# EAGLE library part EP2C70F896 (library altera-cyclone-II)
EP2C70F896 Auto generated by make-symbol-device-package-bsdl.ulp Rev. 19 Tip: Use split-device-symbol.ulp to generate a Device with multiple small symbols! Read HELP. Source: EP2C70F896.BSD
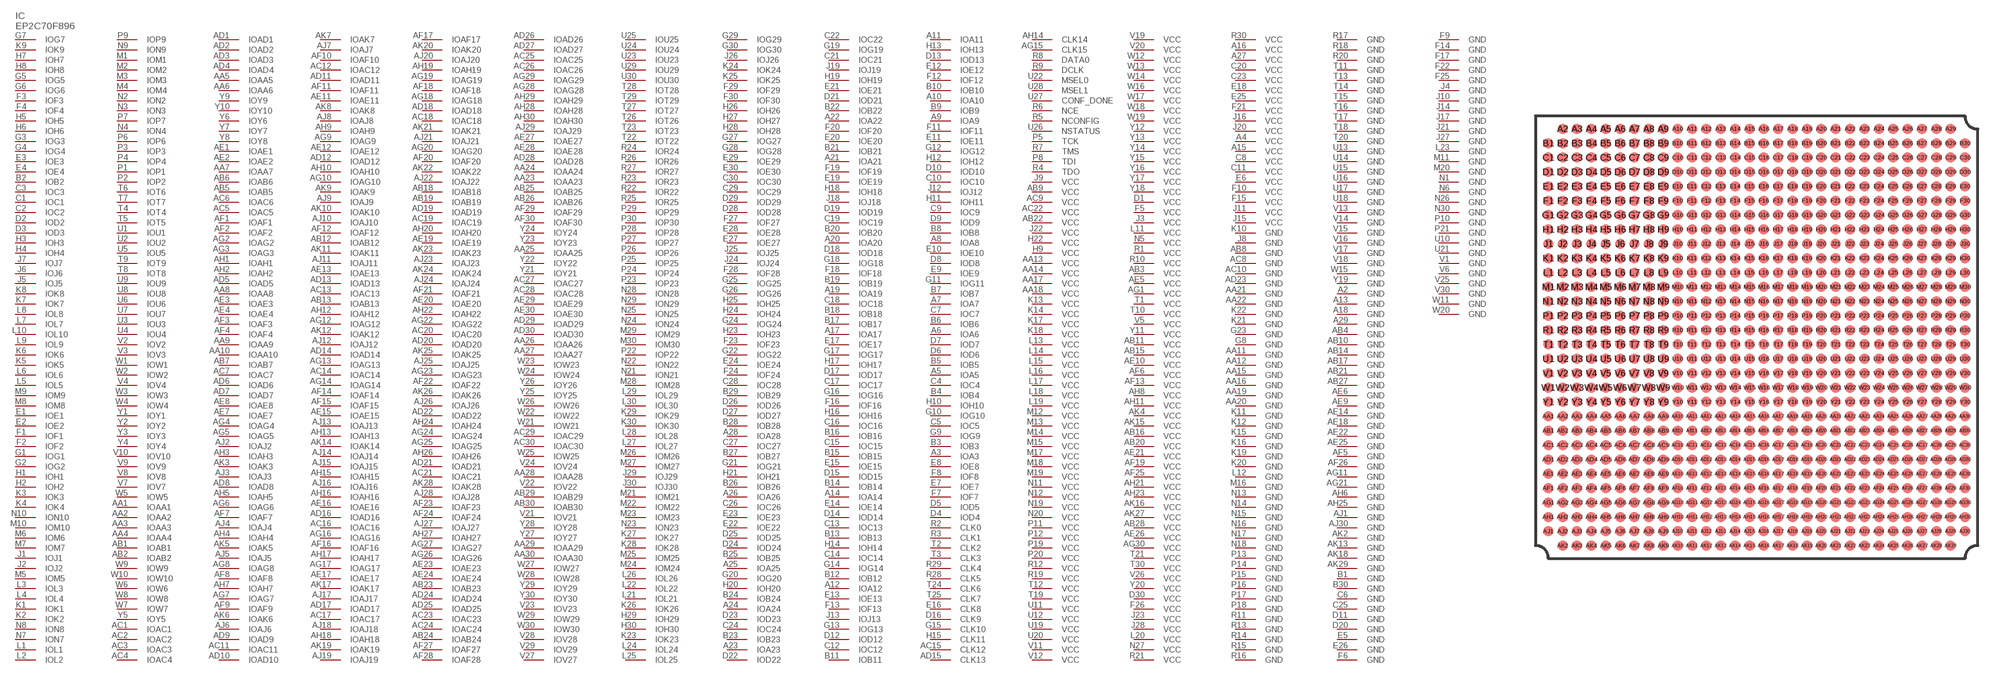
[diagram p17: symbol with the pads of FBGA896; footprint FBGA896]

Designator prefix IC

## EP2C70F896  [FBGA896]
A2  GND  pwr
A3  IOA3
A4  VCC  pwr
A5  IOA5
A6  IOA6
A7  IOA7
A8  IOA8
A9  IOA9
A10  IOA10
A11  IOA11
A12  IOA12
A13  GND  pwr
A14  IOA14
A15  VCC  pwr
A16  VCC  pwr
A17  IOA17
A18  GND  pwr
A19  IOA19
A20  IOA20
A21  IOA21
A22  IOA22
A23  IOA23
A24  IOA24
A25  IOA25
A26  IOA26
A27  VCC  pwr
A28  IOA28
A29  GND  pwr
AA1  IOAA1
AA2  IOAA2
AA3  IOAA3
AA4  IOAA4
AA5  IOAA5
AA6  IOAA6
AA7  IOAA7
AA8  IOAA8
AA9  IOAA9
AA10  IOAA10
AA11  GND  pwr
AA12  GND  pwr
AA13  VCC  pwr
AA14  VCC  pwr
AA15  GND  pwr
AA16  GND  pwr
AA17  VCC  pwr
AA18  VCC  pwr
AA19  GND  pwr
AA20  GND  pwr
AA21  GND  pwr
AA22  GND  pwr
AA23  IOAA23
AA24  IOAA24
AA25  IOAA25
AA26  IOAA26
AA27  IOAA27
AA28  IOAA28
AA29  IOAA29
AA30  IOAA30
AB1  IOAB1
AB2  IOAB2
AB3  VCC  pwr
AB4  GND  pwr
AB5  IOAB5
AB6  IOAB6
AB7  IOAB7
AB8  GND  pwr
AB9  VCC  pwr
AB10  GND  pwr
AB11  VCC  pwr
AB12  IOAB12
AB13  IOAB13
AB14  GND  pwr
AB15  VCC  pwr
AB16  VCC  pwr
AB17  GND  pwr
AB18  IOAB18
AB19  IOAB19
AB20  VCC  pwr
AB21  GND  pwr
AB22  VCC  pwr
AB23  IOAB23
AB24  IOAB24
AB25  IOAB25
AB26  IOAB26
AB27  GND  pwr
AB28  VCC  pwr
AB29  IOAB29
AB30  IOAB30
AC1  IOAC1
AC2  IOAC2
AC3  IOAC3
AC4  IOAC4
AC5  IOAC5
AC6  IOAC6
AC7  IOAC7
AC8  GND  pwr
AC9  VCC  pwr
AC10  GND  pwr
AC11  IOAC11
AC12  IOAC12
AC13  IOAC13
AC14  IOAC14
AC15  CLK12
AC16  IOAC16
AC17  IOAC17
AC18  IOAC18
AC19  IOAC19
AC20  IOAC20
AC21  IOAC21
AC22  VCC  pwr
AC23  IOAC23
AC24  IOAC24
AC25  IOAC25
AC26  IOAC26
AC27  IOAC27
AC28  IOAC28
AC29  IOAC29
AC30  IOAC30
AD1  IOAD1
AD2  IOAD2
AD3  IOAD3
AD4  IOAD4
AD5  IOAD5
AD6  IOAD6
AD7  IOAD7
AD8  IOAD8
AD9  IOAD9
AD10  IOAD10
AD11  IOAD11
AD12  IOAD12
AD13  IOAD13
AD14  IOAD14
AD15  CLK13
AD16  IOAD16
AD17  IOAD17
AD18  IOAD18
AD19  IOAD19
AD20  IOAD20
AD21  IOAD21
AD22  IOAD22
AD23  GND  pwr
AD24  IOAD24
AD25  IOAD25
AD26  IOAD26
AD27  IOAD27
AD28  IOAD28
AD29  IOAD29
AD30  IOAD30
AE1  IOAE1
AE2  IOAE2
AE3  IOAE3
AE4  IOAE4
AE5  VCC  pwr
AE6  GND  pwr
AE7  IOAE7
AE8  IOAE8
AE9  GND  pwr
AE10  VCC  pwr
AE11  IOAE11
AE12  IOAE12
AE13  IOAE13
AE14  GND  pwr
AE15  IOAE15
AE16  IOAE16
AE17  IOAE17
AE18  GND  pwr
AE19  IOAE19
AE20  IOAE20
AE21  VCC  pwr
AE22  GND  pwr
AE23  IOAE23
AE24  IOAE24
AE25  GND  pwr
AE26  VCC  pwr
AE27  IOAE27
AE28  IOAE28
AE29  IOAE29
AE30  IOAE30
AF1  IOAF1
AF2  IOAF2
AF3  IOAF3
AF4  IOAF4
AF5  GND  pwr
AF6  VCC  pwr
AF7  IOAF7
AF8  IOAF8
AF9  IOAF9
AF10  IOAF10
AF11  IOAF11
AF12  IOAF12
AF13  VCC  pwr
AF14  IOAF14
AF15  IOAF15
AF16  IOAF16
AF17  IOAF17
AF18  IOAF18
AF19  VCC  pwr
AF20  IOAF20
AF21  IOAF21
AF22  IOAF22
AF23  IOAF23
AF24  IOAF24
AF25  VCC  pwr
AF26  GND  pwr
AF27  IOAF27
AF28  IOAF28
AF29  IOAF29
AF30  IOAF30
AG1  VCC  pwr
AG2  IOAG2
AG3  IOAG3
AG4  IOAG4
AG5  IOAG5
AG6  IOAG6
AG7  IOAG7
AG8  IOAG8
AG9  IOAG9
AG10  IOAG10
AG11  GND  pwr
AG12  IOAG12
AG13  IOAG13
AG14  IOAG14
AG15  CLK15
AG16  IOAG16
AG17  IOAG17
AG18  IOAG18
AG19  IOAG19
AG20  IOAG20
AG21  GND  pwr
AG22  IOAG22
AG23  IOAG23
AG24  IOAG24
AG25  IOAG25
AG26  IOAG26
AG27  IOAG27
AG28  IOAG28
AG29  IOAG29
AG30  VCC  pwr
AH1  IOAH1
AH2  IOAH2
AH3  IOAH3
AH4  IOAH4
AH5  IOAH5
AH6  GND  pwr
AH7  IOAH7
AH8  VCC  pwr
AH9  IOAH9
AH10  IOAH10
AH11  VCC  pwr
AH12  IOAH12
AH13  IOAH13
AH14  CLK14
AH15  IOAH15
AH16  IOAH16
AH17  IOAH17
AH18  IOAH18
AH19  IOAH19
AH20  IOAH20
AH21  VCC  pwr
AH22  IOAH22
AH23  VCC  pwr
AH24  IOAH24
AH25  GND  pwr
AH26  IOAH26
AH27  IOAH27
AH28  IOAH28
AH29  IOAH29
AH30  IOAH30
AJ1  GND  pwr
AJ2  IOAJ2
AJ3  IOAJ3
AJ4  IOAJ4
AJ5  IOAJ5
AJ6  IOAJ6
AJ7  IOAJ7
AJ8  IOAJ8
AJ9  IOAJ9
AJ10  IOAJ10
AJ11  IOAJ11
AJ12  IOAJ12
AJ13  IOAJ13
AJ14  IOAJ14
AJ15  IOAJ15
AJ16  IOAJ16
AJ17  IOAJ17
AJ18  IOAJ18
AJ19  IOAJ19
AJ20  IOAJ20
AJ21  IOAJ21
AJ22  IOAJ22
AJ23  IOAJ23
AJ24  IOAJ24
AJ25  IOAJ25
AJ26  IOAJ26
AJ27  IOAJ27
AJ28  IOAJ28
AJ29  IOAJ29
AJ30  GND  pwr
AK2  GND  pwr
AK3  IOAK3
AK4  VCC  pwr
AK5  IOAK5
AK6  IOAK6
AK7  IOAK7
AK8  IOAK8
AK9  IOAK9
AK10  IOAK10
AK11  IOAK11
AK12  IOAK12
AK13  GND  pwr
AK14  IOAK14
AK15  VCC  pwr
AK16  VCC  pwr
AK17  IOAK17
AK18  GND  pwr
AK19  IOAK19
AK20  IOAK20
AK21  IOAK21
AK22  IOAK22
AK23  IOAK23
AK24  IOAK24
AK25  IOAK25
AK26  IOAK26
AK27  VCC  pwr
AK28  IOAK28
AK29  GND  pwr
B1  GND  pwr
B2  IOB2
B3  IOB3
B4  IOB4
B5  IOB5
B6  IOB6
B7  IOB7
B8  IOB8
B9  IOB9
B10  IOB10
B11  IOB11
B12  IOB12
B13  IOB13
B14  IOB14
B15  IOB15
B16  IOB16
B17  IOB17
B18  IOB18
B19  IOB19
B20  IOB20
B21  IOB21
B22  IOB22
B23  IOB23
B24  IOB24
B25  IOB25
B26  IOB26
B27  IOB27
B28  IOB28
B29  IOB29
B30  GND  pwr
C1  IOC1
C2  IOC2
C3  IOC3
C4  IOC4
C5  IOC5
C6  GND  pwr
C7  IOC7
C8  VCC  pwr
C9  IOC9
C10  IOC10
C11  VCC  pwr
C12  IOC12
C13  IOC13
C14  IOC14
C15  IOC15
C16  IOC16
C17  IOC17
C18  IOC18
C19  IOC19
C20  VCC  pwr
C21  IOC21
C22  IOC22
C23  VCC  pwr
C24  IOC24
C25  GND  pwr
C26  IOC26
C27  IOC27
C28  IOC28
C29  IOC29
C30  IOC30
D1  VCC  pwr
D2  IOD2
D3  IOD3
D4  IOD4
D5  IOD5
D6  IOD6
D7  IOD7
D8  IOD8
D9  IOD9
D10  IOD10
D11  GND  pwr
D12  IOD12
D13  IOD13
D14  IOD14
D15  IOD15
D16  CLK9
D17  IOD17
D18  IOD18
D19  IOD19
D20  GND  pwr
D21  IOD21
D22  IOD22
D23  IOD23
D24  IOD24
D25  IOD25
D26  IOD26
D27  IOD27
D28  IOD28
D29  IOD29
D30  VCC  pwr
E1  IOE1
E2  IOE2
E3  IOE3
E4  IOE4
E5  GND  pwr
E6  VCC  pwr
E7  IOE7
E8  IOE8
E9  IOE9
E10  IOE10
E11  IOE11
E12  IOE12
E13  IOE13
E14  IOE14
E15  IOE15
E16  CLK8
E17  IOE17
E18  VCC  pwr
E19  IOE19
E20  IOE20
E21  IOE21
E22  IOE22
E23  IOE23
E24  IOE24
E25  VCC  pwr
E26  GND  pwr
E27  IOE27
E28  IOE28
E29  IOE29
E30  IOE30
F1  IOF1
F2  IOF2
F3  IOF3
F4  IOF4
F5  VCC  pwr
F6  GND  pwr
F7  IOF7
F8  IOF8
F9  GND  pwr
F10  VCC  pwr
F11  IOF11
F12  IOF12
F13  IOF13
F14  GND  pwr
F15  VCC  pwr
F16  IOF16
F17  GND  pwr
F18  IOF18
F19  IOF19
F20  IOF20
F21  VCC  pwr
F22  GND  pwr
F23  IOF23
F24  IOF24
F25  GND  pwr
F26  VCC  pwr
F27  IOF27
F28  IOF28
F29  IOF29
F30  IOF30
G1  IOG1
G2  IOG2
G3  IOG3
G4  IOG4
G5  IOG5
G6  IOG6
G7  IOG7  out
G8  GND  pwr
G9  IOG9
G10  IOG10
G11  IOG11
G12  IOG12
G13  IOG13
G14  IOG14
G15  CLK10
G16  IOG16
G17  IOG17
G18  IOG18
G19  IOG19
G20  IOG20
G21  IOG21
G22  IOG22
G23  GND  pwr
G24  IOG24
G25  IOG25
G26  IOG26
G27  IOG27
G28  IOG28
G29  IOG29
G30  IOG30
H1  IOH1
H2  IOH2
H3  IOH3
H4  IOH4
H5  IOH5
H6  IOH6
H7  IOH7
H8  IOH8
H9  VCC  pwr
H10  IOH10
H11  IOH11
H12  IOH12
H13  IOH13
H14  IOH14
H15  CLK11
H16  IOH16
H17  IOH17
H18  IOH18
H19  IOH19
H20  IOH20
H21  IOH21
H22  VCC  pwr
H23  IOH23
H24  IOH24
H25  IOH25
H26  IOH26
H27  IOH27
H28  IOH28
H29  IOH29
H30  IOH30
J1  IOJ1
J2  IOJ2
J3  VCC  pwr
J4  GND  pwr
J5  IOJ5
J6  IOJ6
J7  IOJ7
J8  GND  pwr
J9  VCC  pwr
J10  GND  pwr
J11  VCC  pwr
J12  IOJ12
J13  IOJ13
J14  GND  pwr
J15  VCC  pwr
J16  VCC  pwr
J17  GND  pwr
J18  IOJ18
J19  IOJ19
J20  VCC  pwr
J21  GND  pwr
J22  VCC  pwr
J23  VCC  pwr
J24  IOJ24
J25  IOJ25
J26  IOJ26
J27  GND  pwr
J28  VCC  pwr
J29  IOJ29
J30  IOJ30
K1  IOK1
K2  IOK2
K3  IOK3
K4  IOK4
K5  IOK5
K6  IOK6
K7  IOK7
K8  IOK8
K9  IOK9  out
K10  GND  pwr
K11  GND  pwr
K12  GND  pwr
K13  VCC  pwr
K14  VCC  pwr
K15  GND  pwr
K16  GND  pwr
K17  VCC  pwr
K18  VCC  pwr
K19  GND  pwr
K20  GND  pwr
K21  GND  pwr
K22  GND  pwr
K23  IOK23
K24  IOK24
K25  IOK25
K26  IOK26
K27  IOK27
K28  IOK28
K29  IOK29
K30  IOK30
L1  IOL1
L2  IOL2
L3  IOL3
L4  IOL4
L5  IOL5
L6  IOL6
L7  IOL7
L8  IOL8
L9  IOL9
L10  IOL10
L11  VCC  pwr
L12  GND  pwr
L13  VCC  pwr
L14  VCC  pwr
L15  VCC  pwr
L16  VCC  pwr
L17  VCC  pwr
L18  VCC  pwr
L19  VCC  pwr
L20  VCC  pwr
L21  IOL21
L22  IOL22
L23  GND  pwr
L24  IOL24
L25  IOL25
L26  IOL26
L27  IOL27
L28  IOL28
L29  IOL29
L30  IOL30
M1  IOM1
M2  IOM2
M3  IOM3
M4  IOM4
M5  IOM5
M6  IOM6
M7  IOM7
M8  IOM8
M9  IOM9
M10  IOM10
M11  GND  pwr
M12  VCC  pwr
M13  VCC  pwr
M14  VCC  pwr
M15  VCC  pwr
M16  GND  pwr
M17  VCC  pwr
M18  VCC  pwr
M19  VCC  pwr
M20  GND  pwr
M21  IOM21
M22  IOM22
M23  IOM23
M24  IOM24
M25  IOM25
M26  IOM26
M27  IOM27
M28  IOM28
M29  IOM29
M30  IOM30
N1  GND  pwr
N2  ION2
N3  ION3
N4  ION4
N5  VCC  pwr
N6  GND  pwr
N7  ION7
N8  ION8
N9  ION9
N10  ION10
N11  VCC  pwr
N12  VCC  pwr
N13  GND  pwr
N14  GND  pwr
N15  GND  pwr
N16  GND  pwr
N17  GND  pwr
N18  GND  pwr
N19  VCC  pwr
N20  VCC  pwr
N21  ION21
N22  ION22
N23  ION23
N24  ION24
N25  ION25
N26  GND  pwr
N27  VCC  pwr
N28  ION28
N29  ION29
N30  GND  pwr
P1  IOP1
P2  IOP2
P3  IOP3
P4  IOP4
P5  TCK  in
P6  IOP6
P7  IOP7
P8  TDI  in
P9  IOP9
P10  GND  pwr
P11  VCC  pwr
P12  VCC  pwr
P13  GND  pwr
P14  GND  pwr
P15  GND  pwr
P16  GND  pwr
P17  GND  pwr
P18  GND  pwr
P19  VCC  pwr
P20  VCC  pwr
P21  GND  pwr
P22  IOP22
P23  IOP23
P24  IOP24
P25  IOP25
P26  IOP26
P27  IOP27
P28  IOP28
P29  IOP29
P30  IOP30
R1  VCC  pwr
R2  CLK0
R3  CLK1
R4  TDO  out
R5  NCONFIG  in
R6  NCE  in
R7  TMS  in
R8  DATA0
R9  DCLK
R10  VCC  pwr
R11  GND  pwr
R12  VCC  pwr
R13  GND  pwr
R14  GND  pwr
R15  GND  pwr
R16  GND  pwr
R17  GND  pwr
R18  GND  pwr
R19  VCC  pwr
R20  GND  pwr
R21  VCC  pwr
R22  IOR22
R23  IOR23
R24  IOR24
R25  IOR25
R26  IOR26
R27  IOR27
R28  CLK5
R29  CLK4
R30  VCC  pwr
T1  VCC  pwr
T2  CLK2
T3  CLK3
T4  IOT4
T5  IOT5
T6  IOT6
T7  IOT7
T8  IOT8
T9  IOT9
T10  VCC  pwr
T11  GND  pwr
T12  VCC  pwr
T13  GND  pwr
T14  GND  pwr
T15  GND  pwr
T16  GND  pwr
T17  GND  pwr
T18  GND  pwr
T19  VCC  pwr
T20  GND  pwr
T21  VCC  pwr
T22  IOT22
T23  IOT23
T24  CLK6
T25  CLK7
T26  IOT26
T27  IOT27
T28  IOT28
T29  IOT29
T30  VCC  pwr
U1  IOU1
U2  IOU2
U3  IOU3
U4  IOU4
U5  IOU5
U6  IOU6
U7  IOU7
U8  IOU8
U9  IOU9
U10  GND  pwr
U11  VCC  pwr
U12  VCC  pwr
U13  GND  pwr
U14  GND  pwr
U15  GND  pwr
U16  GND  pwr
U17  GND  pwr
U18  GND  pwr
U19  VCC  pwr
U20  VCC  pwr
U21  GND  pwr
U22  MSEL0  in
U23  IOU23
U24  IOU24
U25  IOU25
U26  NSTATUS  in
U27  CONF_DONE  in
U28  MSEL1  in
U29  IOU29
U30  IOU30
V1  GND  pwr
V2  IOV2
V3  IOV3
V4  IOV4
V5  VCC  pwr
V6  GND  pwr
V7  IOV7
V8  IOV8
V9  IOV9
V10  IOV10
V11  VCC  pwr
V12  VCC  pwr
V13  GND  pwr
V14  GND  pwr
V15  GND  pwr
V16  GND  pwr
V17  GND  pwr
V18  GND  pwr
V19  VCC  pwr
V20  VCC  pwr
V21  IOV21
V22  IOV22
V23  IOV23
V24  IOV24
V25  GND  pwr
V26  VCC  pwr
V27  IOV27
V28  IOV28
V29  IOV29
V30  GND  pwr
W1  IOW1
W2  IOW2
W3  IOW3
W4  IOW4
W5  IOW5
W6  IOW6
W7  IOW7
W8  IOW8
W9  IOW9
W10  IOW10
W11  GND  pwr
W12  VCC  pwr
W13  VCC  pwr
W14  VCC  pwr
W15  GND  pwr
W16  VCC  pwr
W17  VCC  pwr
W18  VCC  pwr
W19  VCC  pwr
W20  GND  pwr
W21  IOW21
W22  IOW22
W23  IOW23
W24  IOW24
W25  IOW25
W26  IOW26
W27  IOW27
W28  IOW28
W29  IOW29
W30  IOW30
Y1  IOY1
Y2  IOY2
Y3  IOY3
Y4  IOY4
Y5  IOY5
Y6  IOY6
Y7  IOY7
Y8  IOY8
Y9  IOY9
Y10  IOY10
Y11  VCC  pwr
Y12  VCC  pwr
Y13  VCC  pwr
Y14  VCC  pwr
Y15  VCC  pwr
Y16  VCC  pwr
Y17  VCC  pwr
Y18  VCC  pwr
Y19  GND  pwr
Y20  VCC  pwr
Y21  IOY21
Y22  IOY22
Y23  IOY23
Y24  IOY24
Y25  IOY25
Y26  IOY26
Y27  IOY27
Y28  IOY28
Y29  IOY29
Y30  IOY30

## Footprint FBGA896 (pad centres in mm)
EP2C70F896 Auto generated by make-symbol-device-package-bsdl.ulp Rev. 19 Source: EP2C70F896.BSD www.altera.com .. cyc2_cii51015.pdf
smd 0.7 x 0.7: A2 -13.5,14.5; A3 -12.5,14.5; A4 -11.5,14.5; A5 -10.5,14.5; A6 -9.5,14.5; A7 -8.5,14.5; A8 -7.5,14.5; A9 -6.5,14.5; A10 -5.5,14.5; A11 -4.5,14.5; A12 -3.5,14.5; A13 -2.5,14.5; A14 -1.5,14.5; A15 -0.5,14.5; A16 0.5,14.5; A17 1.5,14.5; A18 2.5,14.5; A19 3.5,14.5; A20 4.5,14.5; A21 5.5,14.5; A22 6.5,14.5; A23 7.5,14.5; A24 8.5,14.5; A25 9.5,14.5; A26 10.5,14.5; A27 11.5,14.5; A28 12.5,14.5; A29 13.5,14.5; AA1 -14.5,-5.5; AA2 -13.5,-5.5; AA3 -12.5,-5.5; AA4 -11.5,-5.5; AA5 -10.5,-5.5; AA6 -9.5,-5.5; AA7 -8.5,-5.5; AA8 -7.5,-5.5; AA9 -6.5,-5.5; AA10 -5.5,-5.5; AA11 -4.5,-5.5; AA12 -3.5,-5.5; AA13 -2.5,-5.5; AA14 -1.5,-5.5; AA15 -0.5,-5.5; AA16 0.5,-5.5; AA17 1.5,-5.5; AA18 2.5,-5.5; AA19 3.5,-5.5; AA20 4.5,-5.5; AA21 5.5,-5.5; AA22 6.5,-5.5; AA23 7.5,-5.5; AA24 8.5,-5.5; AA25 9.5,-5.5; AA26 10.5,-5.5; AA27 11.5,-5.5; AA28 12.5,-5.5; AA29 13.5,-5.5; AA30 14.5,-5.5; AB1 -14.5,-6.5; AB2 -13.5,-6.5; AB3 -12.5,-6.5; AB4 -11.5,-6.5; AB5 -10.5,-6.5; AB6 -9.5,-6.5; AB7 -8.5,-6.5; AB8 -7.5,-6.5; AB9 -6.5,-6.5; AB10 -5.5,-6.5; AB11 -4.5,-6.5; AB12 -3.5,-6.5; AB13 -2.5,-6.5; AB14 -1.5,-6.5; AB15 -0.5,-6.5; AB16 0.5,-6.5; AB17 1.5,-6.5; AB18 2.5,-6.5; AB19 3.5,-6.5; AB20 4.5,-6.5; AB21 5.5,-6.5; AB22 6.5,-6.5; AB23 7.5,-6.5; AB24 8.5,-6.5; AB25 9.5,-6.5; AB26 10.5,-6.5; AB27 11.5,-6.5; AB28 12.5,-6.5; AB29 13.5,-6.5; AB30 14.5,-6.5; AC1 -14.5,-7.5; AC2 -13.5,-7.5; AC3 -12.5,-7.5; AC4 -11.5,-7.5; AC5 -10.5,-7.5; AC6 -9.5,-7.5; AC7 -8.5,-7.5; AC8 -7.5,-7.5; AC9 -6.5,-7.5; AC10 -5.5,-7.5; AC11 -4.5,-7.5; AC12 -3.5,-7.5; AC13 -2.5,-7.5; AC14 -1.5,-7.5; AC15 -0.5,-7.5; AC16 0.5,-7.5; AC17 1.5,-7.5; AC18 2.5,-7.5; AC19 3.5,-7.5; AC20 4.5,-7.5; AC21 5.5,-7.5; AC22 6.5,-7.5; AC23 7.5,-7.5; AC24 8.5,-7.5; AC25 9.5,-7.5; AC26 10.5,-7.5; AC27 11.5,-7.5; AC28 12.5,-7.5; AC29 13.5,-7.5; AC30 14.5,-7.5; AD1 -14.5,-8.5; AD2 -13.5,-8.5; AD3 -12.5,-8.5; AD4 -11.5,-8.5; AD5 -10.5,-8.5; AD6 -9.5,-8.5; AD7 -8.5,-8.5; AD8 -7.5,-8.5; AD9 -6.5,-8.5; AD10 -5.5,-8.5; AD11 -4.5,-8.5; AD12 -3.5,-8.5; AD13 -2.5,-8.5; AD14 -1.5,-8.5; AD15 -0.5,-8.5; AD16 0.5,-8.5; AD17 1.5,-8.5; AD18 2.5,-8.5; AD19 3.5,-8.5; AD20 4.5,-8.5; AD21 5.5,-8.5; AD22 6.5,-8.5; AD23 7.5,-8.5; AD24 8.5,-8.5; AD25 9.5,-8.5; AD26 10.5,-8.5; AD27 11.5,-8.5; AD28 12.5,-8.5; AD29 13.5,-8.5; AD30 14.5,-8.5; AE1 -14.5,-9.5; AE2 -13.5,-9.5; AE3 -12.5,-9.5; AE4 -11.5,-9.5; AE5 -10.5,-9.5; AE6 -9.5,-9.5; AE7 -8.5,-9.5; AE8 -7.5,-9.5; AE9 -6.5,-9.5; AE10 -5.5,-9.5; AE11 -4.5,-9.5; AE12 -3.5,-9.5; AE13 -2.5,-9.5; AE14 -1.5,-9.5; AE15 -0.5,-9.5; AE16 0.5,-9.5; AE17 1.5,-9.5; AE18 2.5,-9.5; AE19 3.5,-9.5; AE20 4.5,-9.5; AE21 5.5,-9.5; AE22 6.5,-9.5; AE23 7.5,-9.5; AE24 8.5,-9.5; AE25 9.5,-9.5; AE26 10.5,-9.5; AE27 11.5,-9.5; AE28 12.5,-9.5; AE29 13.5,-9.5; AE30 14.5,-9.5; AF1 -14.5,-10.5; AF2 -13.5,-10.5; AF3 -12.5,-10.5; AF4 -11.5,-10.5; AF5 -10.5,-10.5; AF6 -9.5,-10.5; AF7 -8.5,-10.5; AF8 -7.5,-10.5; AF9 -6.5,-10.5; AF10 -5.5,-10.5; AF11 -4.5,-10.5; AF12 -3.5,-10.5; AF13 -2.5,-10.5; AF14 -1.5,-10.5; AF15 -0.5,-10.5; AF16 0.5,-10.5; AF17 1.5,-10.5; AF18 2.5,-10.5; AF19 3.5,-10.5; AF20 4.5,-10.5; AF21 5.5,-10.5; AF22 6.5,-10.5; AF23 7.5,-10.5; AF24 8.5,-10.5; AF25 9.5,-10.5; AF26 10.5,-10.5; AF27 11.5,-10.5; AF28 12.5,-10.5; AF29 13.5,-10.5; AF30 14.5,-10.5; AG1 -14.5,-11.5; AG2 -13.5,-11.5; AG3 -12.5,-11.5; AG4 -11.5,-11.5; AG5 -10.5,-11.5; AG6 -9.5,-11.5; AG7 -8.5,-11.5; AG8 -7.5,-11.5; AG9 -6.5,-11.5; AG10 -5.5,-11.5; AG11 -4.5,-11.5; AG12 -3.5,-11.5; AG13 -2.5,-11.5; AG14 -1.5,-11.5; AG15 -0.5,-11.5; AG16 0.5,-11.5; AG17 1.5,-11.5; AG18 2.5,-11.5; AG19 3.5,-11.5; AG20 4.5,-11.5; AG21 5.5,-11.5; AG22 6.5,-11.5; AG23 7.5,-11.5; AG24 8.5,-11.5; AG25 9.5,-11.5; AG26 10.5,-11.5; AG27 11.5,-11.5; AG28 12.5,-11.5; AG29 13.5,-11.5; AG30 14.5,-11.5; AH1 -14.5,-12.5; AH2 -13.5,-12.5; AH3 -12.5,-12.5; AH4 -11.5,-12.5; AH5 -10.5,-12.5; AH6 -9.5,-12.5; AH7 -8.5,-12.5; AH8 -7.5,-12.5; AH9 -6.5,-12.5; AH10 -5.5,-12.5; AH11 -4.5,-12.5; AH12 -3.5,-12.5; AH13 -2.5,-12.5; AH14 -1.5,-12.5; AH15 -0.5,-12.5; AH16 0.5,-12.5; AH17 1.5,-12.5; AH18 2.5,-12.5; AH19 3.5,-12.5; AH20 4.5,-12.5; AH21 5.5,-12.5; AH22 6.5,-12.5; AH23 7.5,-12.5; AH24 8.5,-12.5; AH25 9.5,-12.5; AH26 10.5,-12.5; AH27 11.5,-12.5; AH28 12.5,-12.5; AH29 13.5,-12.5; AH30 14.5,-12.5; AJ1 -14.5,-13.5; AJ2 -13.5,-13.5; AJ3 -12.5,-13.5; AJ4 -11.5,-13.5; AJ5 -10.5,-13.5; AJ6 -9.5,-13.5; AJ7 -8.5,-13.5; AJ8 -7.5,-13.5; AJ9 -6.5,-13.5; AJ10 -5.5,-13.5; AJ11 -4.5,-13.5; AJ12 -3.5,-13.5; AJ13 -2.5,-13.5; AJ14 -1.5,-13.5; AJ15 -0.5,-13.5; AJ16 0.5,-13.5; AJ17 1.5,-13.5; AJ18 2.5,-13.5; AJ19 3.5,-13.5; AJ20 4.5,-13.5; AJ21 5.5,-13.5; AJ22 6.5,-13.5; AJ23 7.5,-13.5; AJ24 8.5,-13.5; AJ25 9.5,-13.5; AJ26 10.5,-13.5; AJ27 11.5,-13.5; AJ28 12.5,-13.5; AJ29 13.5,-13.5; AJ30 14.5,-13.5; AK2 -13.5,-14.5; AK3 -12.5,-14.5; AK4 -11.5,-14.5; AK5 -10.5,-14.5; AK6 -9.5,-14.5; AK7 -8.5,-14.5; AK8 -7.5,-14.5; AK9 -6.5,-14.5; AK10 -5.5,-14.5; AK11 -4.5,-14.5; AK12 -3.5,-14.5; AK13 -2.5,-14.5; AK14 -1.5,-14.5; AK15 -0.5,-14.5; AK16 0.5,-14.5; AK17 1.5,-14.5; AK18 2.5,-14.5; AK19 3.5,-14.5; AK20 4.5,-14.5; AK21 5.5,-14.5; AK22 6.5,-14.5; AK23 7.5,-14.5; AK24 8.5,-14.5; AK25 9.5,-14.5; AK26 10.5,-14.5; AK27 11.5,-14.5; AK28 12.5,-14.5; AK29 13.5,-14.5; B1 -14.5,13.5; B2 -13.5,13.5; B3 -12.5,13.5; B4 -11.5,13.5; B5 -10.5,13.5; B6 -9.5,13.5; B7 -8.5,13.5; B8 -7.5,13.5; B9 -6.5,13.5; B10 -5.5,13.5; B11 -4.5,13.5; B12 -3.5,13.5; B13 -2.5,13.5; B14 -1.5,13.5; B15 -0.5,13.5; B16 0.5,13.5; B17 1.5,13.5; B18 2.5,13.5; B19 3.5,13.5; B20 4.5,13.5; B21 5.5,13.5; B22 6.5,13.5; B23 7.5,13.5; B24 8.5,13.5; B25 9.5,13.5; B26 10.5,13.5; B27 11.5,13.5; B28 12.5,13.5; B29 13.5,13.5; B30 14.5,13.5; C1 -14.5,12.5; C2 -13.5,12.5; C3 -12.5,12.5; C4 -11.5,12.5; C5 -10.5,12.5; C6 -9.5,12.5; C7 -8.5,12.5; C8 -7.5,12.5; C9 -6.5,12.5; C10 -5.5,12.5; C11 -4.5,12.5; C12 -3.5,12.5; C13 -2.5,12.5; C14 -1.5,12.5; C15 -0.5,12.5; C16 0.5,12.5; C17 1.5,12.5; C18 2.5,12.5; C19 3.5,12.5; C20 4.5,12.5; C21 5.5,12.5; C22 6.5,12.5; C23 7.5,12.5; C24 8.5,12.5; C25 9.5,12.5; C26 10.5,12.5; C27 11.5,12.5; C28 12.5,12.5; C29 13.5,12.5; C30 14.5,12.5; D1 -14.5,11.5; D2 -13.5,11.5; D3 -12.5,11.5; D4 -11.5,11.5; D5 -10.5,11.5; D6 -9.5,11.5; D7 -8.5,11.5; D8 -7.5,11.5; D9 -6.5,11.5; D10 -5.5,11.5; D11 -4.5,11.5; D12 -3.5,11.5; D13 -2.5,11.5; D14 -1.5,11.5; D15 -0.5,11.5; D16 0.5,11.5; D17 1.5,11.5; D18 2.5,11.5; D19 3.5,11.5; D20 4.5,11.5; D21 5.5,11.5; D22 6.5,11.5; D23 7.5,11.5; D24 8.5,11.5; D25 9.5,11.5; D26 10.5,11.5; D27 11.5,11.5; D28 12.5,11.5; D29 13.5,11.5; D30 14.5,11.5; E1 -14.5,10.5; E2 -13.5,10.5; E3 -12.5,10.5; E4 -11.5,10.5; E5 -10.5,10.5; E6 -9.5,10.5; E7 -8.5,10.5; E8 -7.5,10.5; E9 -6.5,10.5; E10 -5.5,10.5; E11 -4.5,10.5; E12 -3.5,10.5; E13 -2.5,10.5; E14 -1.5,10.5; E15 -0.5,10.5; E16 0.5,10.5; E17 1.5,10.5; E18 2.5,10.5; E19 3.5,10.5; E20 4.5,10.5; E21 5.5,10.5; E22 6.5,10.5; E23 7.5,10.5; E24 8.5,10.5; E25 9.5,10.5; E26 10.5,10.5; E27 11.5,10.5; E28 12.5,10.5; E29 13.5,10.5; E30 14.5,10.5; F1 -14.5,9.5; F2 -13.5,9.5; F3 -12.5,9.5; F4 -11.5,9.5; F5 -10.5,9.5; F6 -9.5,9.5; F7 -8.5,9.5; F8 -7.5,9.5; F9 -6.5,9.5; F10 -5.5,9.5; F11 -4.5,9.5; F12 -3.5,9.5; F13 -2.5,9.5; F14 -1.5,9.5; F15 -0.5,9.5; F16 0.5,9.5; F17 1.5,9.5; F18 2.5,9.5; F19 3.5,9.5; F20 4.5,9.5; F21 5.5,9.5; F22 6.5,9.5; F23 7.5,9.5; F24 8.5,9.5; F25 9.5,9.5; F26 10.5,9.5; F27 11.5,9.5; F28 12.5,9.5; F29 13.5,9.5; F30 14.5,9.5; G1 -14.5,8.5; G2 -13.5,8.5; G3 -12.5,8.5; G4 -11.5,8.5; G5 -10.5,8.5; G6 -9.5,8.5; G7 -8.5,8.5; G8 -7.5,8.5; G9 -6.5,8.5; G10 -5.5,8.5; G11 -4.5,8.5; G12 -3.5,8.5; G13 -2.5,8.5; G14 -1.5,8.5; G15 -0.5,8.5; G16 0.5,8.5; G17 1.5,8.5; G18 2.5,8.5; G19 3.5,8.5; G20 4.5,8.5; G21 5.5,8.5; G22 6.5,8.5; G23 7.5,8.5; G24 8.5,8.5; G25 9.5,8.5; G26 10.5,8.5; G27 11.5,8.5; G28 12.5,8.5; G29 13.5,8.5; G30 14.5,8.5; H1 -14.5,7.5; H2 -13.5,7.5; H3 -12.5,7.5; H4 -11.5,7.5; H5 -10.5,7.5; H6 -9.5,7.5; H7 -8.5,7.5; H8 -7.5,7.5; H9 -6.5,7.5; H10 -5.5,7.5; H11 -4.5,7.5; H12 -3.5,7.5; H13 -2.5,7.5; H14 -1.5,7.5; H15 -0.5,7.5; H16 0.5,7.5; H17 1.5,7.5; H18 2.5,7.5; H19 3.5,7.5; H20 4.5,7.5; H21 5.5,7.5; H22 6.5,7.5; H23 7.5,7.5; H24 8.5,7.5; H25 9.5,7.5; H26 10.5,7.5; H27 11.5,7.5; H28 12.5,7.5; H29 13.5,7.5; H30 14.5,7.5; J1 -14.5,6.5; J2 -13.5,6.5; J3 -12.5,6.5; J4 -11.5,6.5; J5 -10.5,6.5; J6 -9.5,6.5; J7 -8.5,6.5; J8 -7.5,6.5; J9 -6.5,6.5; J10 -5.5,6.5; J11 -4.5,6.5; J12 -3.5,6.5; J13 -2.5,6.5; J14 -1.5,6.5; J15 -0.5,6.5; J16 0.5,6.5; J17 1.5,6.5; J18 2.5,6.5; J19 3.5,6.5; J20 4.5,6.5; J21 5.5,6.5; J22 6.5,6.5; J23 7.5,6.5; J24 8.5,6.5; J25 9.5,6.5; J26 10.5,6.5; J27 11.5,6.5; J28 12.5,6.5; J29 13.5,6.5; J30 14.5,6.5; K1 -14.5,5.5; K2 -13.5,5.5; K3 -12.5,5.5; K4 -11.5,5.5; K5 -10.5,5.5; K6 -9.5,5.5; K7 -8.5,5.5; K8 -7.5,5.5; K9 -6.5,5.5; K10 -5.5,5.5; K11 -4.5,5.5; K12 -3.5,5.5; K13 -2.5,5.5; K14 -1.5,5.5; K15 -0.5,5.5; K16 0.5,5.5; K17 1.5,5.5; K18 2.5,5.5; K19 3.5,5.5; K20 4.5,5.5; K21 5.5,5.5; K22 6.5,5.5; K23 7.5,5.5; K24 8.5,5.5; K25 9.5,5.5; K26 10.5,5.5; K27 11.5,5.5; K28 12.5,5.5; K29 13.5,5.5; K30 14.5,5.5; L1 -14.5,4.5; L2 -13.5,4.5; L3 -12.5,4.5; L4 -11.5,4.5; L5 -10.5,4.5; L6 -9.5,4.5; L7 -8.5,4.5; L8 -7.5,4.5; L9 -6.5,4.5; L10 -5.5,4.5; L11 -4.5,4.5; L12 -3.5,4.5; L13 -2.5,4.5; L14 -1.5,4.5; L15 -0.5,4.5; L16 0.5,4.5; L17 1.5,4.5; L18 2.5,4.5; L19 3.5,4.5; L20 4.5,4.5; L21 5.5,4.5; L22 6.5,4.5; L23 7.5,4.5; L24 8.5,4.5; L25 9.5,4.5; L26 10.5,4.5; L27 11.5,4.5; L28 12.5,4.5; L29 13.5,4.5; L30 14.5,4.5; M1 -14.5,3.5; M2 -13.5,3.5; M3 -12.5,3.5; M4 -11.5,3.5; M5 -10.5,3.5; M6 -9.5,3.5; M7 -8.5,3.5; M8 -7.5,3.5; M9 -6.5,3.5; M10 -5.5,3.5; M11 -4.5,3.5; M12 -3.5,3.5; M13 -2.5,3.5; M14 -1.5,3.5; M15 -0.5,3.5; M16 0.5,3.5; M17 1.5,3.5; M18 2.5,3.5; M19 3.5,3.5; M20 4.5,3.5; M21 5.5,3.5; M22 6.5,3.5; M23 7.5,3.5; M24 8.5,3.5; M25 9.5,3.5; M26 10.5,3.5; M27 11.5,3.5; M28 12.5,3.5; M29 13.5,3.5; M30 14.5,3.5; N1 -14.5,2.5; N2 -13.5,2.5; N3 -12.5,2.5; N4 -11.5,2.5; N5 -10.5,2.5; N6 -9.5,2.5; N7 -8.5,2.5; N8 -7.5,2.5; N9 -6.5,2.5; N10 -5.5,2.5; N11 -4.5,2.5; N12 -3.5,2.5; N13 -2.5,2.5; N14 -1.5,2.5; N15 -0.5,2.5; N16 0.5,2.5; N17 1.5,2.5; N18 2.5,2.5; N19 3.5,2.5; N20 4.5,2.5; N21 5.5,2.5; N22 6.5,2.5; N23 7.5,2.5; N24 8.5,2.5; N25 9.5,2.5; N26 10.5,2.5; N27 11.5,2.5; N28 12.5,2.5; N29 13.5,2.5; N30 14.5,2.5; P1 -14.5,1.5; P2 -13.5,1.5; P3 -12.5,1.5; P4 -11.5,1.5; P5 -10.5,1.5; P6 -9.5,1.5; P7 -8.5,1.5; P8 -7.5,1.5; P9 -6.5,1.5; P10 -5.5,1.5; P11 -4.5,1.5; P12 -3.5,1.5; P13 -2.5,1.5; P14 -1.5,1.5; P15 -0.5,1.5; P16 0.5,1.5; P17 1.5,1.5; P18 2.5,1.5; P19 3.5,1.5; P20 4.5,1.5; P21 5.5,1.5; P22 6.5,1.5; P23 7.5,1.5; P24 8.5,1.5; P25 9.5,1.5; P26 10.5,1.5; P27 11.5,1.5; P28 12.5,1.5; P29 13.5,1.5; P30 14.5,1.5; R1 -14.5,0.5; R2 -13.5,0.5; R3 -12.5,0.5; R4 -11.5,0.5; R5 -10.5,0.5; R6 -9.5,0.5; R7 -8.5,0.5; R8 -7.5,0.5; R9 -6.5,0.5; R10 -5.5,0.5; R11 -4.5,0.5; R12 -3.5,0.5; R13 -2.5,0.5; R14 -1.5,0.5; R15 -0.5,0.5; R16 0.5,0.5; R17 1.5,0.5; R18 2.5,0.5; R19 3.5,0.5; R20 4.5,0.5; R21 5.5,0.5; R22 6.5,0.5; R23 7.5,0.5; R24 8.5,0.5; R25 9.5,0.5; R26 10.5,0.5; R27 11.5,0.5; R28 12.5,0.5; R29 13.5,0.5; R30 14.5,0.5; T1 -14.5,-0.5; T2 -13.5,-0.5; T3 -12.5,-0.5; T4 -11.5,-0.5; T5 -10.5,-0.5; T6 -9.5,-0.5; T7 -8.5,-0.5; T8 -7.5,-0.5; T9 -6.5,-0.5; T10 -5.5,-0.5; T11 -4.5,-0.5; T12 -3.5,-0.5; T13 -2.5,-0.5; T14 -1.5,-0.5; T15 -0.5,-0.5; T16 0.5,-0.5; T17 1.5,-0.5; T18 2.5,-0.5; T19 3.5,-0.5; T20 4.5,-0.5; T21 5.5,-0.5; T22 6.5,-0.5; T23 7.5,-0.5; T24 8.5,-0.5; T25 9.5,-0.5; T26 10.5,-0.5; T27 11.5,-0.5; T28 12.5,-0.5; T29 13.5,-0.5; T30 14.5,-0.5; U1 -14.5,-1.5; U2 -13.5,-1.5; U3 -12.5,-1.5; U4 -11.5,-1.5; U5 -10.5,-1.5; U6 -9.5,-1.5; U7 -8.5,-1.5; U8 -7.5,-1.5; U9 -6.5,-1.5; U10 -5.5,-1.5; U11 -4.5,-1.5; U12 -3.5,-1.5; U13 -2.5,-1.5; U14 -1.5,-1.5; U15 -0.5,-1.5; U16 0.5,-1.5; U17 1.5,-1.5; U18 2.5,-1.5; U19 3.5,-1.5; U20 4.5,-1.5; U21 5.5,-1.5; U22 6.5,-1.5; U23 7.5,-1.5; U24 8.5,-1.5; U25 9.5,-1.5; U26 10.5,-1.5; U27 11.5,-1.5; U28 12.5,-1.5; U29 13.5,-1.5; U30 14.5,-1.5; V1 -14.5,-2.5; V2 -13.5,-2.5; V3 -12.5,-2.5; V4 -11.5,-2.5; V5 -10.5,-2.5; V6 -9.5,-2.5; V7 -8.5,-2.5; V8 -7.5,-2.5; V9 -6.5,-2.5; V10 -5.5,-2.5; V11 -4.5,-2.5; V12 -3.5,-2.5; V13 -2.5,-2.5; V14 -1.5,-2.5; V15 -0.5,-2.5; V16 0.5,-2.5; V17 1.5,-2.5; V18 2.5,-2.5; V19 3.5,-2.5; V20 4.5,-2.5; V21 5.5,-2.5; V22 6.5,-2.5; V23 7.5,-2.5; V24 8.5,-2.5; V25 9.5,-2.5; V26 10.5,-2.5; V27 11.5,-2.5; V28 12.5,-2.5; V29 13.5,-2.5; V30 14.5,-2.5; W1 -14.5,-3.5; W2 -13.5,-3.5; W3 -12.5,-3.5; W4 -11.5,-3.5; W5 -10.5,-3.5; W6 -9.5,-3.5; W7 -8.5,-3.5; W8 -7.5,-3.5; W9 -6.5,-3.5; W10 -5.5,-3.5; W11 -4.5,-3.5; W12 -3.5,-3.5; W13 -2.5,-3.5; W14 -1.5,-3.5; W15 -0.5,-3.5; W16 0.5,-3.5; W17 1.5,-3.5; W18 2.5,-3.5; W19 3.5,-3.5; W20 4.5,-3.5; W21 5.5,-3.5; W22 6.5,-3.5; W23 7.5,-3.5; W24 8.5,-3.5; W25 9.5,-3.5; W26 10.5,-3.5; W27 11.5,-3.5; W28 12.5,-3.5; W29 13.5,-3.5; W30 14.5,-3.5; Y1 -14.5,-4.5; Y2 -13.5,-4.5; Y3 -12.5,-4.5; Y4 -11.5,-4.5; Y5 -10.5,-4.5; Y6 -9.5,-4.5; Y7 -8.5,-4.5; Y8 -7.5,-4.5; Y9 -6.5,-4.5; Y10 -5.5,-4.5; Y11 -4.5,-4.5; Y12 -3.5,-4.5; Y13 -2.5,-4.5; Y14 -1.5,-4.5; Y15 -0.5,-4.5; Y16 0.5,-4.5; Y17 1.5,-4.5; Y18 2.5,-4.5; Y19 3.5,-4.5; Y20 4.5,-4.5; Y21 5.5,-4.5; Y22 6.5,-4.5; Y23 7.5,-4.5; Y24 8.5,-4.5; Y25 9.5,-4.5; Y26 10.5,-4.5; Y27 11.5,-4.5; Y28 12.5,-4.5; Y29 13.5,-4.5; Y30 14.5,-4.5